# Altium integrated library CSTCE16M0V53_crystal.IntLib: 1 symbol
Pins are listed as number, name and electrical type; pins without a type are passive.

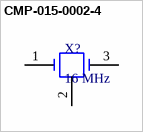
[diagram p0: symbol CMP-015-0002-4]

## CMP-015-0002-4
designator X?, comment 16 MHz
CER RES 16.0000MHZ 15PF SMD; Mfg. Part Number: CSTCE16M0V53-R0; FootprintName1: CSTCE16XTAL; FootprintDescription1: CSTCE16M0V53-R0; FootprintRevisionID1: PCC-0038-1; Case/Package: -; Mount: SMD; Pins: 3; RoHS: Yes
footprint CSTCE16XTAL (CSTCE16M0V53-R0)
pins: 1 OSC1, 2 GND, 3 OSC2